# Altium schematic symbol library SchlibAmplifier.SchLib: 1 symbol
Pins are listed as number, name and electrical type; pins without a type are passive.

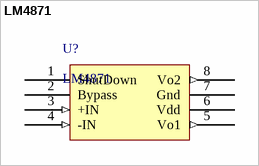
[diagram p0: symbol LM4871]

## LM4871
designator U?
3W Audio Power Amplifier
pins: 1 ShutDown, 2 Bypass, 3 +IN (in), 4 -IN (in), 5 Vo1 (out), 6 Vdd (power), 7 Gnd (power), 8 Vo2 (out)